# EAGLE library part UC-F28335-EXPUSB (library eagleLib v2)
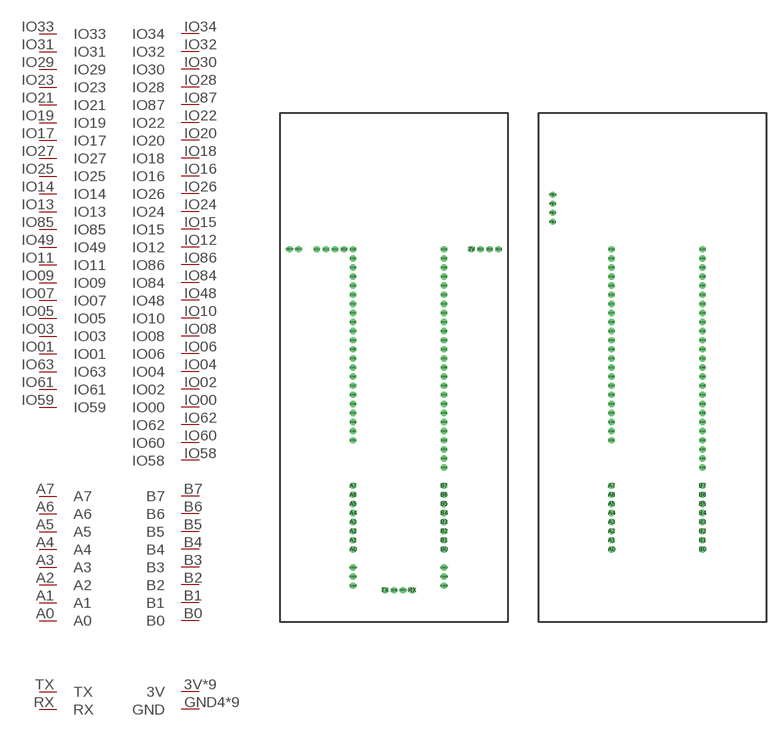
[diagram p56: symbol with the pads of UC-F28335-EXPUSB; footprints UC-F28335-EXPUSB, UC-F28335-EXPUSB-2]

Designator prefix -

## UC-F28335-EXPUSBALL  [UC-F28335-EXPUSB]
3V  3V
3V1  3V
3V2  3V
3V3  3V
3V4  3V
3V9  3V
3V10  3V
3V11  3V
3V12  3V
A0  A0
A1  A1
A2  A2
A3  A3
A4  A4
A5  A5
A6  A6
A7  A7
B0  B0
B1  B1
B2  B2
B3  B3
B4  B4
B5  B5
B6  B6
B7  B7
GND4  GND
GND5  GND
GND6  GND
GND7  GND
GND8  GND
GND9  GND
GND10  GND
GND17  GND
GND18  GND
IO00  IO00
IO01  IO01
IO02  IO02
IO03  IO03
IO04  IO04
IO05  IO05
IO06  IO06
IO07  IO07
IO08  IO08
IO09  IO09
IO10  IO10
IO11  IO11
IO12  IO12
IO13  IO13
IO14  IO14
IO15  IO15
IO16  IO16
IO17  IO17
IO18  IO18
IO19  IO19
IO20  IO20
IO21  IO21
IO22  IO22
IO23  IO23
IO24  IO24
IO25  IO25
IO26  IO26
IO27  IO27
IO28  IO28
IO29  IO29
IO30  IO30
IO31  IO31
IO32  IO32
IO33  IO33
IO34  IO34
IO48  IO48
IO49  IO49
IO58  IO58
IO59  IO59
IO60  IO60
IO61  IO61
IO62  IO62
IO63  IO63
IO84  IO84
IO85  IO85
IO86  IO86
IO87  IO87
RX  RX
TX  TX

## UC-F28335-EXPUSBIO  [UC-F28335-EXPUSB-2]
A0  A0
A1  A1
A2  A2
A3  A3
A4  A4
A5  A5
A6  A6
A7  A7
B0  B0
B1  B1
B2  B2
B3  B3
B4  B4
B5  B5
B6  B6
B7  B7
IO00  IO00
IO01  IO01
IO02  IO02
IO03  IO03
IO04  IO04
IO05  IO05
IO06  IO06
IO07  IO07
IO08  IO08
IO09  IO09
IO10  IO10
IO11  IO11
IO12  IO12
IO13  IO13
IO14  IO14
IO15  IO15
IO16  IO16
IO17  IO17
IO18  IO18
IO19  IO19
IO20  IO20
IO21  IO21
IO22  IO22
IO23  IO23
IO24  IO24
IO25  IO25
IO26  IO26
IO27  IO27
IO28  IO28
IO29  IO29
IO30  IO30
IO31  IO31
IO32  IO32
IO33  IO33
IO34  IO34
IO48  IO48
IO49  IO49
IO58  IO58
IO59  IO59
IO60  IO60
IO61  IO61
IO62  IO62
IO63  IO63
IO84  IO84
IO85  IO85
IO86  IO86
IO87  IO87
P$1  3V
P$2  GND
P$3  RX
P$4  TX

## Footprint UC-F28335-EXPUSB (pad centres in mm)
drill 0.635 pad 1.778 octagon: 3V 20.32,6.35; 3V1 22.86,6.35; 3V2 -15.24,6.35; 3V3 25.4,6.35; 3V4 27.94,6.35; 3V9 -1.27,-88.9; 3V10 -17.78,6.35; 3V11 -20.32,6.35; 3V12 -22.86,6.35; A0 -12.7,-77.47; A1 -12.7,-74.93; A2 -12.7,-72.39; A3 -12.7,-69.85; A4 -12.7,-67.31; A5 -12.7,-64.77; A6 -12.7,-62.23; A7 -12.7,-59.69; B0 12.7,-77.47; B1 12.7,-74.93; B2 12.7,-72.39; B3 12.7,-69.85; B4 12.7,-67.31; B5 12.7,-64.77; B6 12.7,-62.23; B7 12.7,-59.69; GND4 -12.7,-82.55; GND5 -12.7,-85.09; GND6 -12.7,-87.63; GND7 12.7,-82.55; GND8 12.7,-85.09; GND9 12.7,-87.63; GND10 1.27,-88.9; GND17 -27.94,6.35; GND18 -30.48,6.35; IO00 12.7,-46.99; IO01 -12.7,-39.37; IO02 12.7,-44.45; IO03 -12.7,-36.83; IO04 12.7,-41.91; IO05 -12.7,-34.29; IO06 12.7,-39.37; IO07 -12.7,-31.75; IO08 12.7,-36.83; IO09 -12.7,-29.21; IO10 12.7,-34.29; IO11 -12.7,-26.67; IO12 12.7,-24.13; IO13 -12.7,-19.05; IO14 -12.7,-16.51; IO15 12.7,-21.59; IO16 12.7,-13.97; IO17 -12.7,-8.89; IO18 12.7,-11.43; IO19 -12.7,-6.35; IO20 12.7,-8.89; IO21 -12.7,-3.81; IO22 12.7,-6.35; IO23 -12.7,-1.27; IO24 12.7,-19.05; IO25 -12.7,-13.97; IO26 12.7,-16.51; IO27 -12.7,-11.43; IO28 12.7,-1.27; IO29 -12.7,1.27; IO30 12.7,1.27; IO31 -12.7,3.81; IO32 12.7,3.81; IO33 -12.7,6.35; IO34 12.7,6.35; IO48 12.7,-31.75; IO49 -12.7,-24.13; IO58 12.7,-54.61; IO59 -12.7,-46.99; IO60 12.7,-52.07; IO61 -12.7,-44.45; IO62 12.7,-49.53; IO63 -12.7,-41.91; IO84 12.7,-29.21; IO85 -12.7,-21.59; IO86 12.7,-26.67; IO87 12.7,-3.81; RX 3.81,-88.9; TX -3.81,-88.9

## Footprint UC-F28335-EXPUSB-2 (pad centres in mm)
drill 0.635 pad 1.778 octagon: A0 -12.7,-77.47; A1 -12.7,-74.93; A2 -12.7,-72.39; A3 -12.7,-69.85; A4 -12.7,-67.31; A5 -12.7,-64.77; A6 -12.7,-62.23; A7 -12.7,-59.69; B0 12.7,-77.47; B1 12.7,-74.93; B2 12.7,-72.39; B3 12.7,-69.85; B4 12.7,-67.31; B5 12.7,-64.77; B6 12.7,-62.23; B7 12.7,-59.69; IO00 12.7,-46.99; IO01 -12.7,-39.37; IO02 12.7,-44.45; IO03 -12.7,-36.83; IO04 12.7,-41.91; IO05 -12.7,-34.29; IO06 12.7,-39.37; IO07 -12.7,-31.75; IO08 12.7,-36.83; IO09 -12.7,-29.21; IO10 12.7,-34.29; IO11 -12.7,-26.67; IO12 12.7,-24.13; IO13 -12.7,-19.05; IO14 -12.7,-16.51; IO15 12.7,-21.59; IO16 12.7,-13.97; IO17 -12.7,-8.89; IO18 12.7,-11.43; IO19 -12.7,-6.35; IO20 12.7,-8.89; IO21 -12.7,-3.81; IO22 12.7,-6.35; IO23 -12.7,-1.27; IO24 12.7,-19.05; IO25 -12.7,-13.97; IO26 12.7,-16.51; IO27 -12.7,-11.43; IO28 12.7,-1.27; IO29 -12.7,1.27; IO30 12.7,1.27; IO31 -12.7,3.81; IO32 12.7,3.81; IO33 -12.7,6.35; IO34 12.7,6.35; IO48 12.7,-31.75; IO49 -12.7,-24.13; IO58 12.7,-54.61; IO59 -12.7,-46.99; IO60 12.7,-52.07; IO61 -12.7,-44.45; IO62 12.7,-49.53; IO63 -12.7,-41.91; IO84 12.7,-29.21; IO85 -12.7,-21.59; IO86 12.7,-26.67; IO87 12.7,-3.81
drill 0.5 pad 1.676: P$1 -29.21,13.97; P$2 -29.21,16.51; P$3 -29.21,19.05; P$4 -29.21,21.59